# Altium schematic symbol library Simscale.SCHLIB: 124 symbols (part 1 of 2)
Pins are listed as number, name and electrical type; pins without a type are passive.

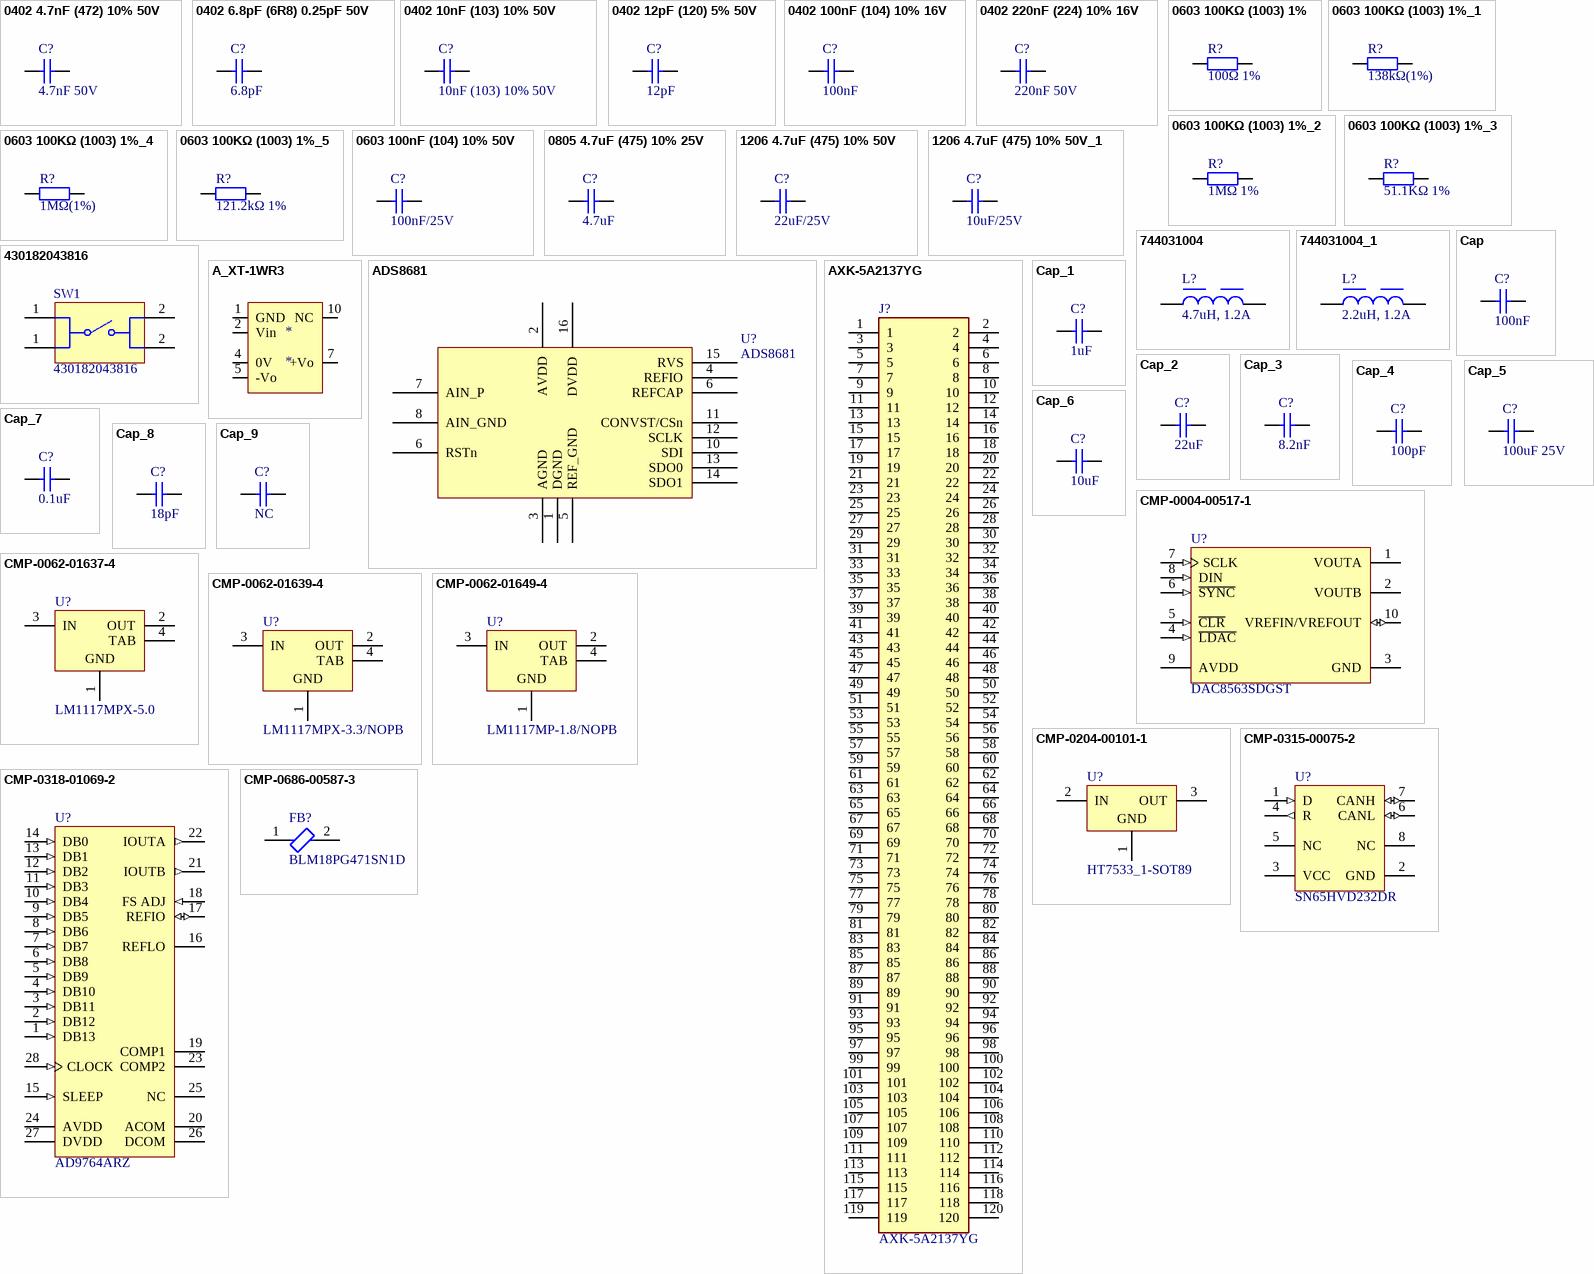
[diagram p0: symbols 0402 4.7nF (472) 10% 50V to CMP-0686-00587-3]

## 0402 4.7nF (472) 10% 50V
designator C?, comment 4.7nF 50V
贴片电容; ComponentLink1Description: 供应商链接; ComponentLink1URL: http://www.szlcsc.com/product/details_1890.html; Package: 0402; Supplier: LC; SuppliersPartNumber: C1538
footprint CAPC1608X06N (Chip Capacitor, 2-Leads, Body 1.60x0.80mm, IPC Medium Density)
pins: 1, 2

## 0402 6.8pF (6R8) 0.25pF 50V
designator C?, comment 6.8pF
贴片电容; ComponentLink1Description: 供应商链接; ComponentLink1URL: http://www.szlcsc.com/product/details_1928.html; Package: 0402; Supplier: LC; SuppliersPartNumber: C1576
footprint CAPC1608X06N (Chip Capacitor, 2-Leads, Body 1.60x0.80mm, IPC Medium Density)
pins: 1, 2

## 0402 10nF (103) 10% 50V
designator C?, comment 10nF (103) 10% 50V
贴片电容; ComponentLink1Description: 供应商链接; ComponentLink1URL: http://www.szlcsc.com/product/details_15869.html; Package: 0402; Supplier: LC; SuppliersPartNumber: C15195
footprint CAPC1608X06N (Chip Capacitor, 2-Leads, Body 1.60x0.80mm, IPC Medium Density)
pins: 1, 2

## 0402 12pF (120) 5% 50V
designator C?, comment 12pF
贴片电容; ComponentLink1Description: 供应商链接; ComponentLink1URL: http://www.szlcsc.com/product/details_1899.html; Package: 0402; Supplier: LC; SuppliersPartNumber: C1547
footprint CAPC1608X06N (Chip Capacitor, 2-Leads, Body 1.60x0.80mm, IPC Medium Density)
pins: 1, 2

## 0402 100nF (104) 10% 16V
designator C?, comment 100nF
贴片电容; ComponentLink1Description: 供应商链接; ComponentLink1URL: http://www.szlcsc.com/product/details_1877.html; Package: 0402; Supplier: LC; SuppliersPartNumber: C1525
footprint CAPC1608X06N (Chip Capacitor, 2-Leads, Body 1.60x0.80mm, IPC Medium Density)
pins: 1, 2

## 0402 220nF (224) 10% 16V
designator C?, comment 220nF 50V
贴片电容; ComponentLink1Description: 供应商链接; ComponentLink1URL: http://www.szlcsc.com/product/details_17456.html; Package: 0402; Supplier: LC; SuppliersPartNumber: C16772
footprint CAPC1608X06N (Chip Capacitor, 2-Leads, Body 1.60x0.80mm, IPC Medium Density)
pins: 1, 2

## 0603 100KΩ (1003) 1%
designator R?, comment 100Ω 1%
贴片电阻; ComponentLink1Description: 供应商链接; ComponentLink1URL: http://www.szlcsc.com/product/details_26546.html; Package: 0603; Supplier: LC; SuppliersPartNumber: C25803; Value: 100Ω 1%
footprint 0402_R
footprint RESC1608X05N (Chip Resistor, 2-Leads, Body 1.60x0.80mm, IPC Medium Density)
pins: 1, 2

## 0603 100KΩ (1003) 1%_1
designator R?, comment 138kΩ(1%)
贴片电阻; ComponentLink1Description: 供应商链接; ComponentLink1URL: http://www.szlcsc.com/product/details_26546.html; Package: 0603; Supplier: LC; SuppliersPartNumber: C25803; Value: 138kΩ(1%)
footprint CAPC1608X06N (Chip Capacitor, 2-Leads, Body 1.60x0.80mm, IPC Medium Density)
pins: 1, 2

## 0603 100KΩ (1003) 1%_2
designator R?, comment 1MΩ 1%
贴片电阻; ComponentLink1Description: 供应商链接; ComponentLink1URL: http://www.szlcsc.com/product/details_26546.html; Package: 0603; Supplier: LC; SuppliersPartNumber: C25803; Value: 1MΩ 1%
footprint CAPC1608X06N (Chip Capacitor, 2-Leads, Body 1.60x0.80mm, IPC Medium Density)
pins: 1, 2

## 0603 100KΩ (1003) 1%_3
designator R?, comment 51.1KΩ 1%
贴片电阻; ComponentLink1Description: 供应商链接; ComponentLink1URL: http://www.szlcsc.com/product/details_26546.html; Package: 0603; Supplier: LC; SuppliersPartNumber: C25803; Value: 51.1KΩ 1%
footprint CAPC1608X06N (Chip Capacitor, 2-Leads, Body 1.60x0.80mm, IPC Medium Density)
pins: 1, 2

## 0603 100KΩ (1003) 1%_4
designator R?, comment 1MΩ(1%)
贴片电阻; ComponentLink1Description: 供应商链接; ComponentLink1URL: http://www.szlcsc.com/product/details_26546.html; Package: 0603; Supplier: LC; SuppliersPartNumber: C25803; Value: 1MΩ(1%)
footprint RESC1608X05N (Chip Resistor, 2-Leads, Body 1.60x0.80mm, IPC Medium Density)
pins: 1, 2

## 0603 100KΩ (1003) 1%_5
designator R?, comment 121.2kΩ 1%
贴片电阻; ComponentLink1Description: 供应商链接; ComponentLink1URL: http://www.szlcsc.com/product/details_26546.html; Package: 0603; Supplier: LC; SuppliersPartNumber: C25803; Value: 121.2kΩ 1%
footprint CAPC1608X06N (Chip Capacitor, 2-Leads, Body 1.60x0.80mm, IPC Medium Density)
pins: 1, 2

## 0603 100nF (104) 10% 50V
designator C?, comment 100nF/25V
贴片电容; ComponentLink1Description: 供应商链接; ComponentLink1URL: http://www.szlcsc.com/product/details_15331.html; Package: 0603; Supplier: LC; SuppliersPartNumber: C14663
footprint CAPC1608X06N (Chip Capacitor, 2-Leads, Body 1.60x0.80mm, IPC Medium Density)
pins: 1, 2

## 0805 4.7uF (475) 10% 25V
designator C?, comment 4.7uF
贴片电容; ComponentLink1Description: 供应商链接; ComponentLink1URL: http://www.szlcsc.com/product/details_2131.html; Package: 0805; Supplier: LC; SuppliersPartNumber: C1779
footprint CAPC1608X06N (Chip Capacitor, 2-Leads, Body 1.60x0.80mm, IPC Medium Density)
pins: 1, 2

## 1206 4.7uF (475) 10% 50V
designator C?, comment 22uF/25V
贴片电容; ComponentLink1Description: 供应商链接; ComponentLink1URL: http://www.szlcsc.com/product/details_30577.html; Package: 1206; Supplier: LC; SuppliersPartNumber: C29823
footprint CAPC1608X06N (Chip Capacitor, 2-Leads, Body 1.60x0.80mm, IPC Medium Density)
pins: 1, 2

## 1206 4.7uF (475) 10% 50V_1
designator C?, comment 10uF/25V
贴片电容; ComponentLink1Description: 供应商链接; ComponentLink1URL: http://www.szlcsc.com/product/details_30577.html; Package: 1206; Supplier: LC; SuppliersPartNumber: C29823
footprint CAPC1608X06N (Chip Capacitor, 2-Leads, Body 1.60x0.80mm, IPC Medium Density)
pins: 1, 2

## 744031004
designator L?, comment 4.7uH, 1.2A
WE-TPC SMT Tiny Power Inductor, size 3816, 4.7uH, 1.2A, 105mOhm; Manufacturer: Wurth Elektronik; Manufacturer Part Number: 744031004; DC Resistance typ.: 90mOhm; Saturation Current: 0.9A; Self Resonant Frequency: 75MHz; ComponentLink1Description: Manufacturer Link; ComponentLink1URL: http://www.we-online.de; ComponentLink2Description: Datasheet; ComponentLink2URL: https://www.we-online.com/catalog/datasheet/744031004.pdf; DC Resistance max.: 105mOhm; Height: 1.65mm; Inductance: 4.7uH; Length: 3.8mm; Mounting Technology: SMT; Operating Temperature max.: 125C; Operating Temperature min.: -40C; Packaging: Tape and Reel; Rated Current: 1.2A; Size: 3816; Width: 3.8mm
footprint 电感 (Footprint not found)
pins: 1, 2

## 744031004_1
designator L?, comment 2.2uH, 1.2A
WE-TPC SMT Tiny Power Inductor, size 3816, 4.7uH, 1.2A, 105mOhm; Manufacturer: Wurth Elektronik; Manufacturer Part Number: 744031004; DC Resistance typ.: 90mOhm; Saturation Current: 0.9A; Self Resonant Frequency: 75MHz; ComponentLink1Description: Manufacturer Link; ComponentLink1URL: http://www.we-online.de; ComponentLink2Description: Datasheet; ComponentLink2URL: https://www.we-online.com/catalog/datasheet/744031004.pdf; DC Resistance max.: 105mOhm; Height: 1.65mm; Inductance: 4.7uH; Length: 3.8mm; Mounting Technology: SMT; Operating Temperature max.: 125C; Operating Temperature min.: -40C; Packaging: Tape and Reel; Rated Current: 1.2A; Size: 3816; Width: 3.8mm
footprint 电感 (Footprint not found)
pins: 1, 2

## 430182043816
designator SW1
NexarPartId: 22861789; Switch Function: Off-Mom; Contact Resistance: 100mΩ; Switch Travel: 250μm; Voltage Rating: 12V; Mechanical Life: 1Mcycles; Current Rating: 50mA; Actuator Material: Liquid Crystal Polymer, Polymer; Illumination Type: Illuminated, Non-Illuminated; Throw Configuration: SPST; Actuator Length: 900μm; Max Operating Temperature: 85°C; Mount: Surface Mount; Contact Material: Stainless Steel, Steel; Width: 6.2mm; Termination: Gull Wing; Min Operating Temperature: -40°C; Insulation Resistance: 100MΩ; Contact Plating: Silver; Length: 6.2mm; RoHS: Compliant; Contact Current Rating: 50mA; Packaging: Tape and Reel; REACH SVHC: No SVHC; Color: Black; Diameter: 3.5mm; Height: 4.3mm; Lead Free: Lead Free
footprint WS-TASV_L6W6H4.3_4301x20438x6 (Switch Tactile Spst-no 0.05A 12V)
footprint WS-TASV_L6W6H4.3_4301X20438X6 (SMD Tact Switch, body 6x6mm)
pins: 1 A1, 1 A2, 2 B2, 2 B1

## A_XT-1WR3
designator *
footprint A_XT-1WR3
pins: 1 GND, 2 Vin, 4 0V, 5 -Vo, 7 +Vo, 10 NC

## ADS8681
designator U?
ADC
footprint TSSOP16 (TSOP, 16-Leads, Body 5.00x4.40mm, Pitch 0.65mm, IPC Medium Density)
pins: 1 DGND, 2 AVDD, 3 AGND, 4 REFIO, 5 REF_GND, 6 REFCAP, 6 RSTn, 7 AIN_P, 8 AIN_GND, 10 SDI, 11 CONVST/CSn, 12 SCLK, 13 SDO0, 14 SDO1, 15 RVS, 16 DVDD

## AXK-5A2137YG
designator J?
Board to Board & Mezzanine Connectors CONN SOCKET BRD/BRD 120POS 0.5mm; Manufacturer_Name: Panasonic; Geometry.Height: 2.55mm; Manufacturer_Part_Number: AXK-5A2137YG; Mouser Part Number: *; Mouser Price/Stock: *; Arrow Part Number: *; Arrow Price/Stock: *; Datasheet Link: https://www3.panasonic.biz/ac/e_download/control/connector/base-base/catalog/con_eng_p5k.pdf
footprint AXK5A2137YG
pins: 1, 2, 3, 4, 5, 6, 7, 8, 9, 10, 11, 12, 13, 14, 15, 16, 17, 18, 19, 20, 21, 22, 23, 24, 25, 26, 27, 28, 29, 30, 31, 32, 33, 34, 35, 36, 37, 38, 39, 40, 41, 42, 43, 44, 45, 46, 47, 48, 49, 50, 51, 52, 53, 54, 55, 56, 57, 58, 59, 60, 61, 62, 63, 64, 65, 66, 67, 68, 69, 70, 71, 72, 73, 74, 75, 76, 77, 78, 79, 80, 81, 82, 83, 84, 85, 86, 87, 88, 89, 90, 91, 92, 93, 94, 95, 96, 97, 98, 99, 100, 101, 102, 103, 104, 105, 106, 107, 108, 109, 110, 111, 112, 113, 114, 115, 116, 117, 118, 119, 120

## Cap
designator C?, comment 100nF
Capacitor; Published: 8-Jun-2000; LatestRevisionDate: 17-Jul-2002; LatestRevisionNote: Re-released for DXP Platform.; PackageReference: RAD-0.3; Publisher: Altium Limited; PackageDescription: Radial Cap, Thru-Hole; 2 Leads; 0.3 in Pin Spacing; Value: 100nF
simulation model CAP (Capacitor)
signal-integrity model Cap
footprint CAPC1608X06N (Chip Capacitor, 2-Leads, Body 1.60x0.80mm, IPC Medium Density)
pins: 1, 2

## Cap_1
designator C?, comment 1uF
Capacitor; Published: 8-Jun-2000; LatestRevisionDate: 17-Jul-2002; LatestRevisionNote: Re-released for DXP Platform.; PackageReference: RAD-0.3; Publisher: Altium Limited; PackageDescription: Radial Cap, Thru-Hole; 2 Leads; 0.3 in Pin Spacing; Value: 1uF
simulation model CAP (Capacitor)
signal-integrity model Cap
footprint CAPC1608X06N (Chip Capacitor, 2-Leads, Body 1.60x0.80mm, IPC Medium Density)
pins: 1, 2

## Cap_2
designator C?, comment 22uF
Capacitor; Published: 8-Jun-2000; LatestRevisionDate: 17-Jul-2002; LatestRevisionNote: Re-released for DXP Platform.; PackageReference: RAD-0.3; Publisher: Altium Limited; PackageDescription: Radial Cap, Thru-Hole; 2 Leads; 0.3 in Pin Spacing; Value: 22uF
simulation model CAP (Capacitor)
signal-integrity model Cap
footprint CAPC1608X06N (Chip Capacitor, 2-Leads, Body 1.60x0.80mm, IPC Medium Density)
pins: 1, 2

## Cap_3
designator C?, comment 8.2nF
Capacitor; Published: 8-Jun-2000; LatestRevisionDate: 17-Jul-2002; LatestRevisionNote: Re-released for DXP Platform.; PackageReference: RAD-0.3; Publisher: Altium Limited; PackageDescription: Radial Cap, Thru-Hole; 2 Leads; 0.3 in Pin Spacing; Value: 8.2nF
simulation model CAP (Capacitor)
signal-integrity model Cap
footprint CAPC1608X06N (Chip Capacitor, 2-Leads, Body 1.60x0.80mm, IPC Medium Density)
pins: 1, 2

## Cap_4
designator C?, comment 100pF
Capacitor; Published: 8-Jun-2000; LatestRevisionDate: 17-Jul-2002; LatestRevisionNote: Re-released for DXP Platform.; PackageReference: RAD-0.3; Publisher: Altium Limited; PackageDescription: Radial Cap, Thru-Hole; 2 Leads; 0.3 in Pin Spacing; Value: 100pF
simulation model CAP (Capacitor)
signal-integrity model Cap
footprint CAPC1608X06N (Chip Capacitor, 2-Leads, Body 1.60x0.80mm, IPC Medium Density)
pins: 1, 2

## Cap_5
designator C?, comment 100uF 25V
Capacitor; Published: 8-Jun-2000; LatestRevisionDate: 17-Jul-2002; LatestRevisionNote: Re-released for DXP Platform.; PackageReference: RAD-0.3; Publisher: Altium Limited; PackageDescription: Radial Cap, Thru-Hole; 2 Leads; 0.3 in Pin Spacing; Value: 100uF 25V
simulation model CAP (Capacitor)
signal-integrity model Cap
footprint CAPC1608X06N (Chip Capacitor, 2-Leads, Body 1.60x0.80mm, IPC Medium Density)
pins: 1, 2

## Cap_6
designator C?, comment 10uF
Capacitor; Published: 8-Jun-2000; LatestRevisionDate: 17-Jul-2002; LatestRevisionNote: Re-released for DXP Platform.; PackageReference: RAD-0.3; Publisher: Altium Limited; PackageDescription: Radial Cap, Thru-Hole; 2 Leads; 0.3 in Pin Spacing; Value: 10uF
simulation model CAP (Capacitor)
signal-integrity model Cap
footprint CAPC1608X06N (Chip Capacitor, 2-Leads, Body 1.60x0.80mm, IPC Medium Density)
pins: 1, 2

## Cap_7
designator C?, comment 0.1uF
Capacitor; Published: 8-Jun-2000; LatestRevisionDate: 17-Jul-2002; LatestRevisionNote: Re-released for DXP Platform.; PackageReference: RAD-0.3; Publisher: Altium Limited; PackageDescription: Radial Cap, Thru-Hole; 2 Leads; 0.3 in Pin Spacing; Value: 0.1uF
simulation model CAP (Capacitor)
signal-integrity model Cap
footprint CAPC1608X06N (Chip Capacitor, 2-Leads, Body 1.60x0.80mm, IPC Medium Density)
pins: 1, 2

## Cap_8
designator C?, comment 18pF
Capacitor; Published: 8-Jun-2000; LatestRevisionDate: 17-Jul-2002; LatestRevisionNote: Re-released for DXP Platform.; PackageReference: RAD-0.3; Publisher: Altium Limited; PackageDescription: Radial Cap, Thru-Hole; 2 Leads; 0.3 in Pin Spacing; Value: 18pF
simulation model CAP (Capacitor)
signal-integrity model Cap
footprint CAPC1608X06N (Chip Capacitor, 2-Leads, Body 1.60x0.80mm, IPC Medium Density)
pins: 1, 2

## Cap_9
designator C?, comment NC
Capacitor; Published: 8-Jun-2000; LatestRevisionDate: 17-Jul-2002; LatestRevisionNote: Re-released for DXP Platform.; PackageReference: RAD-0.3; Publisher: Altium Limited; PackageDescription: Radial Cap, Thru-Hole; 2 Leads; 0.3 in Pin Spacing; Value: NC
simulation model CAP (Capacitor)
signal-integrity model Cap
footprint CAPC1608X06N (Chip Capacitor, 2-Leads, Body 1.60x0.80mm, IPC Medium Density)
pins: 1, 2

## CMP-0004-00517-1
designator U?, comment DAC8563SDGST
16-Bit, Dual, Low Power, Ultra-Low Glitch, Buffered Voltage Output DAC with 2.5 V, 4 ppm/degC Reference, -40 to 125 degC, 10-pin SOP (DGS10), Green (RoHS & no Sb/Br); Manufacturer: Texas Instruments; DNL(Max)(+/-LSB): 1; SubFamily: Precision DAC (=<10MSPS); Power Consumption(Typ)(mW): 0.9; Interface: Serial SPI; INL(Max)(+/-LSB): 12; DAC Channels: 2; Resolution(Bits): 16; Settling Time(us): 7; Eco-Plan: Green (RoHS & no Sb/Br); PackageReference: DGS10; DatasheetVersion: SLAS719D; Code_JEDEC: MO-153; ComponentLink3URL: http://www.ti.com/lit/ml/mpds035b/mpds035b.pdf; ComponentLink1Description: Manufacturer URL; ComponentLink2Description: Datasheet; ComponentLink2URL: http://www.ti.com/general/docs/lit/getliterature.tsp?genericPartNumber=DAC8563&fileType=pdf; ComponentLink1URL: http://www.ti.com/; Mounting Technology: Surface Mount; PartNumber: DAC8563SDGST; ComponentLink3Description: Package Specification; PackageVersion: 4073272/C, 02/2004; PackageDescription: 10-Pin Plastic Small Outline, Body 3 x 3 mm, Pitch 0.5 mm
pins: 1 VOUTA (hiz) "Analog output voltage from DAC-A", 2 VOUTB (hiz) "Analog output voltage from DAC-B", 3 GND (power) "Ground reference point for all circuitry on the device", 4 ~{LDAC} (in) "In synchronous mode, data are updated with the falling edge of the 24th SCLK cycle, which follows a falling edge of S\Y\N\C\. For such synchronous updates, the L\D\A\C\ pin is not required, and it must be connected to GND (See Datasheet)", 5 ~{CLR} (in) "Asynchronous clear input. The C\L\R\ input is falling-edge sensitive. When C\L\R\ is activated, zero scale (DACxx62) or mid-scale (DACxx63) is loaded to all input and DAC registers. This sets the DAC output voltages (See Datasheet)", 6 ~{SYNC} (in) "Level-triggered control input (active-low). This input is the frame synchronization signal for the input data. When S\Y\N\C\ goes low, it enables the input shift register, and data are sampled on subsequent falling clock (See Datasheet)", 7 SCLK (in) "Serial clock input. Data can be transferred at rates up to 50 MHz. Schmitt-trigger logic input", 8 DIN (in) "Serial data input. Data are clocked into the 24-bit input shift register on each falling edge of the serial clock input. Schmitt-trigger logic input", 9 AVDD (power) "Power-supply input, 2.7 V to 5.5 V", 10 VREFIN/VREFOUT (io) "Bidirectional voltage reference pin. If internal reference is used, 2.5-V output."

## CMP-0062-01637-4
designator U?, comment LM1117MPX-5.0
800mA Low-Dropout Linear Regulator, 4-pin SOT-223; Manufacturer: Texas Instruments; High-Reliability: Y; PowerWise: N; PackageTopMarking: XYTT*N06A; CompType: LDO IC; PackageDescription: Molded SOT-223, 6.50 x 3.56 x 1.6mm Body, 4 Lead, 2.3mm Pitch; PackageReference: DCY0004A; ComponentLink1URL: http://www.ti.com/general/docs/lit/getliterature.tsp?genericPartNumber=LM1117-N&fileType=pdf; Code_JEDEC: TO-261-AA; ComponentLink1Description: Datasheet URL; PartNumber: LM1117MPX-5.0; Code_IPC: SOT223-4; RoHS: N; PinCount: 4
footprint DCY0004A_L (SOT223, 4-Leads, Body 6.7x3.7mm, Pitch 2.3mm, IPC High Density)
footprint DCY0004A_M (SOT223, 4-Leads, Body 6.7x3.7mm, Pitch 2.3mm, IPC Low Density)
footprint DCY0004A_N (SOT223, 4-Leads, Body 6.7x3.7mm, Pitch 2.3mm, IPC Medium Density)
pins: 1 GND (power), 2 OUT (power), 3 IN (power), 4 TAB (power)

## CMP-0062-01639-4
designator U?, comment LM1117MPX-3.3/NOPB
800mA Low-Dropout Linear Regulator, 4-pin SOT-223, Pb-Free; Manufacturer: Texas Instruments; High-Reliability: Y; PowerWise: N; PackageTopMarking: XYTT*N05A; CompType: LDO IC; ComponentLink1URL: http://www.ti.com/general/docs/lit/getliterature.tsp?genericPartNumber=LM1117-N&fileType=pdf; PartNumber: LM1117MPX-3.3/NOPB; ComponentLink1Description: Datasheet URL; PinCount: 4; Code_JEDEC: TO-261-AA; PackageDescription: Molded SOT-223, 6.50 x 3.56 x 1.6mm Body, 4 Lead, 2.3mm Pitch; PackageReference: DCY0004A; RoHS: Y; Code_IPC: SOT223-4
footprint DCY0004A_L (SOT223, 4-Leads, Body 6.7x3.7mm, Pitch 2.3mm, IPC High Density)
footprint DCY0004A_M (SOT223, 4-Leads, Body 6.7x3.7mm, Pitch 2.3mm, IPC Low Density)
footprint DCY0004A_N (SOT223, 4-Leads, Body 6.7x3.7mm, Pitch 2.3mm, IPC Medium Density)
pins: 1 GND (power), 2 OUT (power), 3 IN (power), 4 TAB (power)

## CMP-0062-01649-4
designator U?, comment LM1117MP-1.8/NOPB
800mA Low-Dropout Linear Regulator, 4-pin SOT-223, Pb-Free; Manufacturer: Texas Instruments; PowerWise: N; PackageTopMarking: XYTT*N12A; High-Reliability: Y; CompType: LDO IC; Code_IPC: SOT223-4; PartNumber: LM1117MP-1.8/NOPB; RoHS: Y; ComponentLink1URL: http://www.ti.com/general/docs/lit/getliterature.tsp?genericPartNumber=LM1117-N&fileType=pdf; ComponentLink1Description: Datasheet URL; PinCount: 4; PackageReference: DCY0004A; PackageDescription: Molded SOT-223, 6.50 x 3.56 x 1.6mm Body, 4 Lead, 2.3mm Pitch; Code_JEDEC: TO-261-AA
footprint DCY0004A_N (SOT223, 4-Leads, Body 6.7x3.7mm, Pitch 2.3mm, IPC Medium Density)
footprint DCY0004A_L (SOT223, 4-Leads, Body 6.7x3.7mm, Pitch 2.3mm, IPC High Density)
footprint DCY0004A_M (SOT223, 4-Leads, Body 6.7x3.7mm, Pitch 2.3mm, IPC Low Density)
pins: 1 GND (power), 2 OUT (power), 3 IN (power), 4 TAB (power)

## CMP-0204-00101-1
designator U?, comment HT7533_1-SOT89
100mA Low Power LDO, Output Voltage 3.3V, SOT89 Pkg; DatasheetVersion: Rev1.80, Mar-2010; PackageDescription: 3-Pin SOT-89 Package 1.5 mm Pitch, 4.1 mm Lead Span; PackageReference: SOT89; PackageVersion: May-2010; Code_IPC: SOT89
footprint SOT89_M (SOT89, 3-Leads, Body 4.5x2.4 mm, Pitch 1.5mm, Lead Span 4.1mm, IPC Low Density)
footprint SOT89_N (SOT89, 3-Leads, Body 4.5x2.4 mm, Pitch 1.5mm, Lead Span 4.1mm, IPC Medium Density)
footprint SOT89_L (SOT89, 3-Leads, Body 4.5x2.4 mm, Pitch 1.5mm, Lead Span 4.1mm, IPC High Density)
pins: 1 GND (power), 2 IN (power), 3 OUT (power)

## CMP-0315-00075-2
designator U?, comment SN65HVD232DR
3.3 V Can Transceiver, 17 mA, -40 to 85 degC, 8-pin SOIC (D), Green (RoHS & no Sb/Br); Manufacturer: Texas Instruments; Supply Voltage(s)(V): 3.3; Receivers Per Package: 1; ICC(Max)(mA): 17; Rating: Catalog; Transient Pulse Protection(V): -25 to 25; Mounting Technology: Surface Mount; PartNumber: SN65HVD232DR; Code_JEDEC: MS-012AA; Eco-Plan: Green (RoHS & no Sb/Br); Isolated: No; SubFamily: CAN; Footprint: SN65HVD232; Drivers Per Package: 1; ComponentLink1URL: http://www.ti.com/general/docs/lit/getliterature.tsp?genericPartNumber=SN65HVD232&fileType=pdf; ComponentLink1Description: Datasheet; PackageDescription: 8-Pin Plastic Small Outline Integrated Circuit, 4.9 x 3.9 mm, Pitch 1.27 mm Pitch; PackageReference: D0008A; DatasheetVersion: SLOS346K; PackageVersion: revM, Jun-2011
footprint D0008A_M (SOIC, 8-Leads, Body 5x4mm, Pitch 1.27mm, IPC Low Density)
footprint D0008A_L (SOIC, 8-Leads, Body 5x4mm, Pitch 1.27mm, IPC High Density)
footprint D0008A_N (SOIC, 8-Leads, Body 5x4mm, Pitch 1.27mm, IPC Medium Density)
pins: 1 D (in) "Driver input", 2 GND (power) "Ground", 3 VCC (power) "Supply voltage", 4 R (out) "Receiver output", 5 NC "No connection", 6 CANL (io) "Low bus output", 7 CANH (io) "High bus outpu", 8 NC "No connection"

## CMP-0318-01069-2
designator U?, comment AD9764ARZ
Single 14-Bit TxDAC, 125 Msps, -40 to +85 degC, RW-28, Pb-Free, Tube; Manufacturer: Analog Devices; Generic Part Number: AD9764; Settling Time: 35ns; Resolution (Bits): 14; # DAC Outputs: 1; Max V+: 5.5V; Op Pwr Diss: 170mW; Single Supply: Yes; ComponentLink2URL: http://www.analog.com/static/imported-files/data_sheets/AD9764.pdf; Mounting Technology: Surface Mount; RevisionNote: Component URL fixed; DatasheetVersion: Rev.B; PackageVersion: 060706-A; ComponentLink1URL: http://www.analog.com/en/index.html; ComponentLink3Description: Product URL; Code_JEDEC: MS-013-AE; PartNumber: AD9764ARZ; ComponentLink3URL: http://www.analog.com/en/digital-to-analog-converters/da-converters/ad9764/products/product.html; PackageDescription: 28-Lead Standard Small Outline Package [SOIC_W]; PackageReference: RW-28; RoHS: Y; ComponentLink1Description: Manufacturer URL; ComponentLink2Description: Datasheet; Packing: Tube
footprint SOIC-28_L17.9-W7.5-P1.27-LS10.3-BL
pins: 1 DB13 (in) "Most Significant Data Bit 13 (MSB).", 2 DB12 (in) "Data Bit 12.", 3 DB11 (in) "Data Bit 11.", 4 DB10 (in) "Data Bit 10.", 5 DB9 (in) "Data Bit 9.", 6 DB8 (in) "Data Bit 8.", 7 DB7 (in) "Data Bit 7.", 8 DB6 (in) "Data Bit 6.", 9 DB5 (in) "Data Bit 5.", 10 DB4 (in) "Data Bit 4.", 11 DB3 (in) "Data Bit 3.", 12 DB2 (in) "Data Bit 2.", 13 DB1 (in) "Data Bit 1.", 14 DB0 (in) "Least Significant Data Bit 0 (LSB).", 15 SLEEP (in) "Power-Down Control Input. Active High. Contains active pull-down circuit, thus may be left unterminated if not used.", 16 REFLO "Reference Ground when Internal 1.2 V Reference Used. Connect to AVDD to disable internal reference.", 17 REFIO (io) "Reference Input/Output. Serves as reference input when internal reference disabled (i.e., Tie REFLO to AVDD). Serves as 1.2 V reference output when internal reference activated (i.e., Tie REFLO to ACOM). Requires 0.1 礔 (See Datasheet)", 18 FS ADJ (in) "Full-Scale Current Output Adjust.", 19 COMP1 "Bandwidth/Noise Reduction Node. Add 0.1 礔 to AVDD for optimum performance.", 20 ACOM (power) "Analog Common.", 21 IOUTB (out) "Complementary DAC Current Output. Full-scale current when all data bits are 0s.", 22 IOUTA (out) "DAC Current Output. Full-scale current when all data bits are 1s.", 23 COMP2 "Internal Bias Node for Switch Driver Circuitry. Decouple to ACOM with 0.1 礔 capacitor.", 24 AVDD (power) "Analog Supply Voltage (+2.7 V to +5.5 V).", 25 NC "No Internal Connection.", 26 DCOM (power) "Digital Common.", 27 DVDD (power) "Digital Supply Voltage (+2.7 V to +5.5 V).", 28 CLOCK (in) "Clock Input.  Data latched on positive edge of clock."

## CMP-0686-00587-3
designator FB?, comment BLM18PG471SN1D
Chip Ferrite Bead, 0603, 470Ω @ 100MHz, 0.2Ω, 25%, 1A; DC Resistance (DCR): 200mR; Number of Circuits: 1; Material: Steel; Impedance: 470R; Core Material: Ferrite; Width: 0.8mm; Termination: SMD/SMT; Series: BLM18P; Min Operating Temperature: -55°C; DC Resistance-Max: 200mR; Current Rating: 1A; Package Quantity: 1; Max Operating Temperature: 125°C; Military Standard: Not; REACH SVHC: No SVHC; Max Current Rating: 1A; Number of Pins: 2; RoHS Compliant: Yes; Tolerance: 25%; Packaging: Tape and Reel; Number of Lines: 1; Resistance: 200mR; Length: 1.6mm; Case Code (Metric): 1608; Depth: 0.8mm; Lead Free: Lead Free; Case/Package: 0603; Height: 0.8mm; Radiation Hardening: No; Test Frequency: 100MHz; Case Code (Imperial): 0603; Max DC Current: 1A; DC Current: 1A
footprint FP-BLM18-0_15-t0_8-MFG
footprint FP-BLM18-0_15-t0_8-IPC_C
footprint FP-BLM18-0_15-t0_8-IPC_A
footprint FP-BLM18-0_15-t0_8-IPC_B
pins: 1, 2

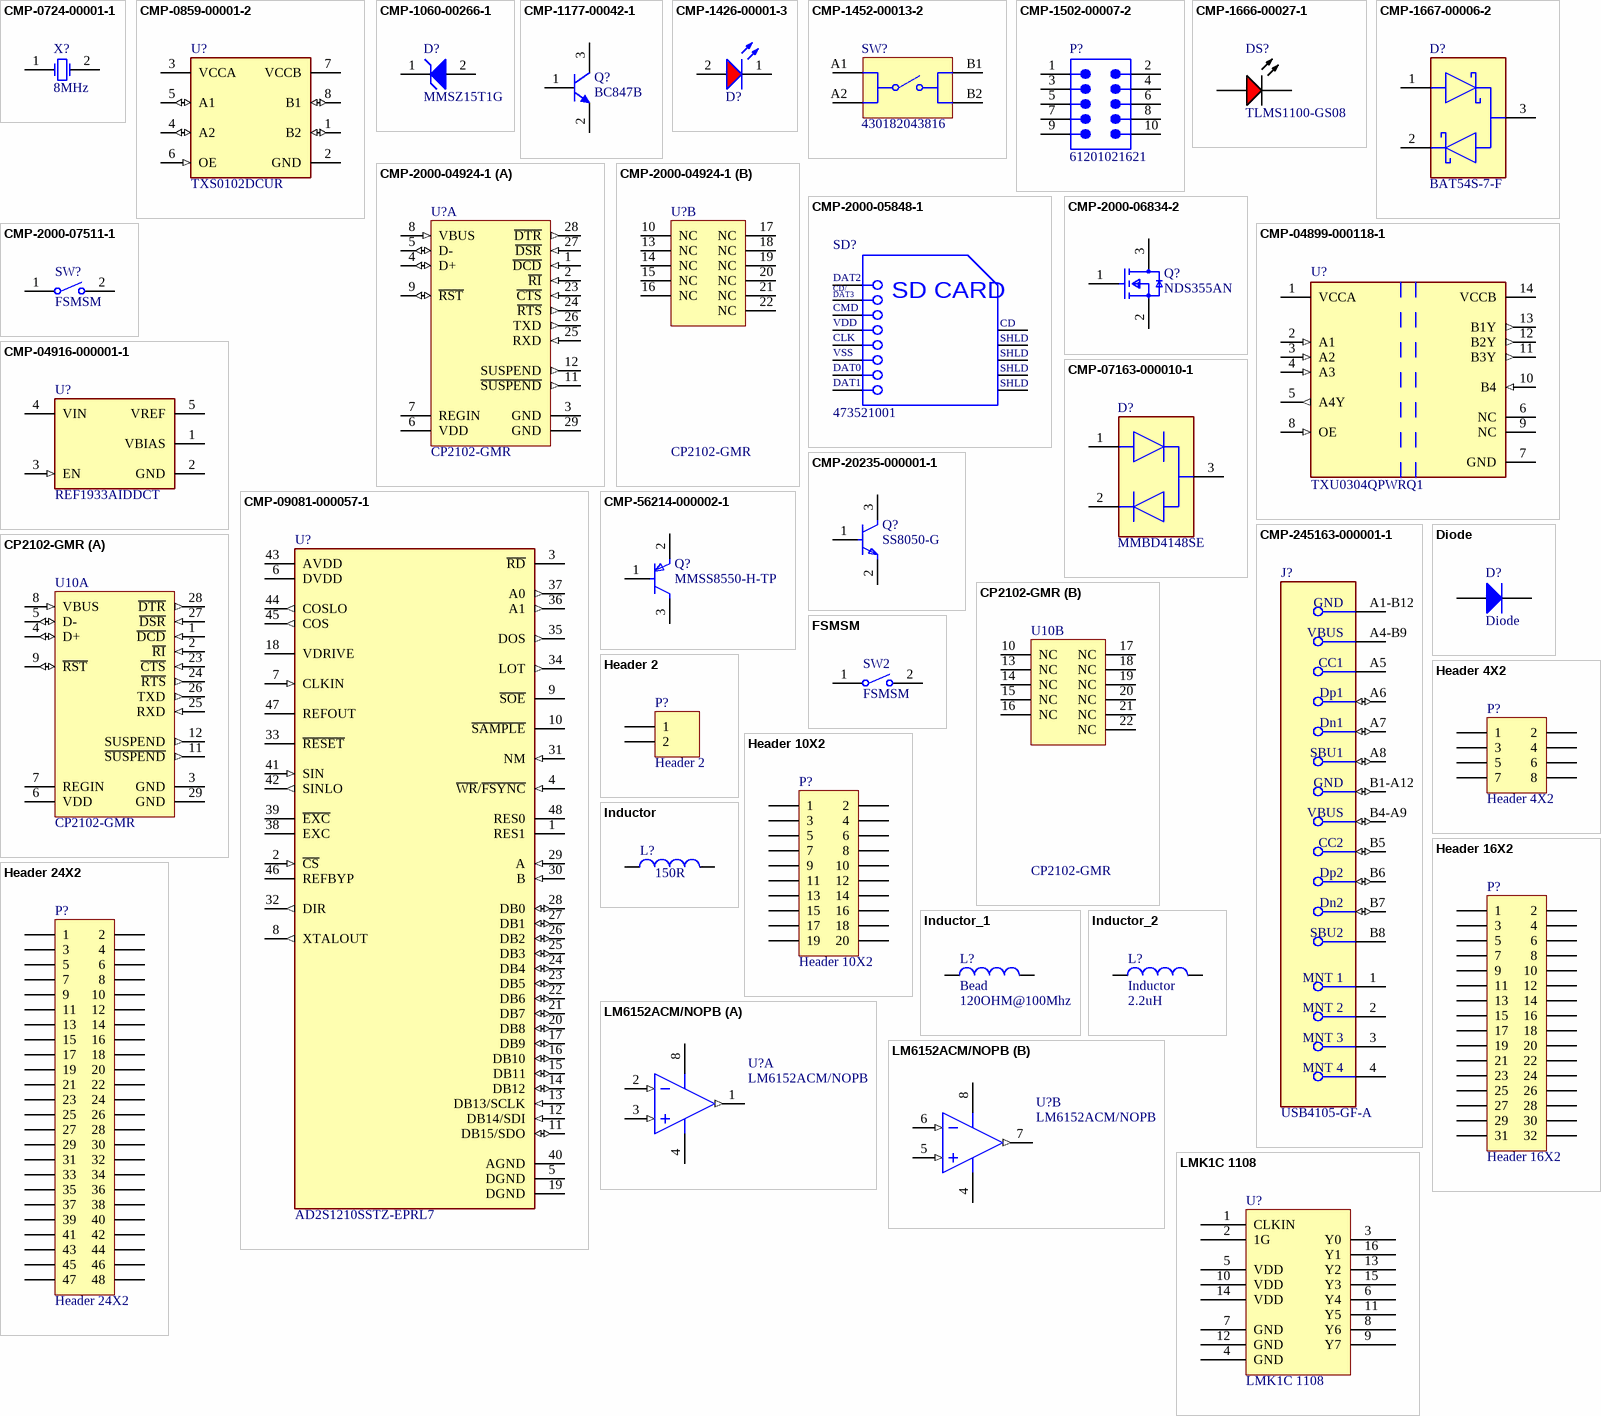
[diagram p1: symbols CMP-0724-00001-1 to LMK1C 1108]

## CMP-0724-00001-1
designator X?, comment 8MHz
PartNumber: 9C-3.6864MBBK-T; Manufacturer: TXC; Packing: Tape and Reel; Load Capacitance: 20 pF; Frequency Tolerance (at 25 degC): +/-50 ppm; Frequency: 3.6864 MHz; Frequency Stability (over Temp.): +/-50 ppm (-20 to 70 degC); PackageVersion: Jun-10; PackageDescription: 2-Pin SMD, Body 11.4 x 4.8 mm, Height 4.1 mm; PackageReference: 9C-2; ComponentLink2URL: http://www.txccrystal.com/images/pdf/9c.pdf; ComponentLink3URL: http://www.txccrystal.com/images/pdf/9c.pdf; Mounting Technology: Surface Mount; ComponentLink3Description: Package Specification; ComponentLink2Description: Datasheet; ComponentLink1URL: http://www.txccrystal.com/; RoHS: TRUE; DatasheetVersion: Jun-10; ComponentLink1Description: Manufacturer URL; Operating Temperature Range: -40 to 85 degC
footprint TXC-9C-2_V (SMD, 2-Leads, Body 11.4 x 4.8 mm, Height 4.1 mm)
pins: 1 X1, 2 X2

## CMP-0859-00001-2
designator U?, comment TXS0102DCUR
IC TRNSLTR BIDIRECTIONAL US8; Manufacturer: Texas Instruments; Number Of Circuits: 1; Number Of Inputs: 2; Data Rate: 24Mbits/s; Max Junction Temp: +150°C; V A Min: 1.65V; Standoff Height: 0mm; Logic Function Desc: Bidirectional Voltage-Level Translator; Max Supply Voltage: 5.5V; V A Max: 3.6V; Nominal Supply Current: 1-14.4uA; V B Min: 2.3V; Temperature: -40°C to +85°C; Temperature Range Low: -40°C; Height: 0.9mm; Device Class L1: Integrated Circuits (ICs); RoHS: TRUE; Min Supply Voltage: 1.65V; Digikey Description: IC TRNSLTR BIDIRECTIONAL US8; ComponentLink2Description: Datasheet; Octopart: https://octopart.com/txs0102dcur-texas+instruments-5414308; Temperature Range High: +85°C; Device Class L2: Logic ICs; Category: IC; Ambient Temperature Range High: +85°C; Automotive: No; Manufacturer Part Number: TXS0102DCUR; Device Class L3: Voltage Level Shifters; Number Of Outputs: 2; Ambient Temperature Range Low: -40°C; Lead Free: Yes; ComponentLink2URL: http://www.ti.com/lit/ds/symlink/txs0102.pdf; V B Max: 5.5V; Package: DCU0008A; Mouser Description: Translation - Voltage Levels 2-Bit Bi-Directional Voltage-Level-Trans
footprint FP-DCU0008A-MFG
footprint FP-DCU0008A-IPC_C
footprint FP-DCU0008A-IPC_B
footprint FP-DCU0008A-IPC_A
pins: 1 B2 (io), 2 GND (power), 3 VCCA (power), 4 A2 (io), 5 A1 (io), 6 OE (in), 7 VCCB (power), 8 B1 (io)

## CMP-1060-00266-1
designator D?, comment MMSZ15T1G
Zener Voltage Regulator, 500 mW, 2-Pin SOD-123, Pb-Free, Tape and Reel; Manufacturer: On Semiconductor; P Max (W): 0.5; RoHS: Pb-Free; Mounting Technology: Surface Mount; ComponentLink2URL: http://www.onsemi.com/pub_link/Collateral/MMSZ2V4T1-D.PDF; ComponentLink3Description: Package Specification; ComponentLink2Description: Datasheet; ComponentLink3URL: http://www.onsemi.com/pub_link/Collateral/425-04.PDF; PackageVersion: Rev. G, 10/2009; DatasheetVersion: Rev. 11; PackageDescription: 2-Pin SOD, Body 1.6 x 2.69 mm; PartNumber: MMSZ15T1G; Packing: Tape and Reel; ComponentLink1Description: Manufacturer URL; ComponentLink1URL: http://www.onsemi.com/; PackageReference: SOD-123-2-425-04
footprint ONSC-SOD-123-2-425-04_V (SOD, 2-Leads, Body 2.69x1.6mm)
pins: 1 K, 2 A

## CMP-1177-00042-1
designator Q?, comment BC847B
NPN Silicon AF Transistor, 45 V VCEO, 100 mA IC, SOT23, Reel, Green; Manufacturer: Infineon; VEBO (max): 6Â V; ICBO (max): 15Â nA; VCBO (max): 50Â V; IBM (max): 200Â mA; Green: TRUE; Ptot (max): 330Â mW; fT (typ): 250Â MHz; IC (max): 100Â mA; VCEO (max): 45Â V; PackageDescription: 3-Pin Small Outline Transistor Package, 1.3 x 2.9 mm Body, 0.95 mm Pitch; ComponentLink3URL: http://www.infineon.com/dgdl/SOT23-Package_Overview.pdf?folderId=db3a30431936bc4b0119532290053c66&fileId=db3a30431936bc4b0119533468123c85; PackageVersion: Apr-08; Packing: Reel; ComponentLink3Description: Package Specification; ComponentLink2URL: http://www.infineon.com/dgdl/bc847series_bc848series_bc849series_bc850series.pdf?folderId=db3a304314dca389011541d30fa21656&fileId=db3a304314dca389011541d4630a1657; ComponentLink1URL: http://www.infineon.com/; ComponentLink2Description: Datasheet; Polarity: NPN; Mounting Technology: Surface Mount; PackageReference: SOT23; ICM (max): 200Â mA; ComponentLink1Description: Manufacturer URL; PartNumber: BC847B
footprint INF-SOT23_M (SOT23, 3-Leads, Body 2.9x1.3 mm, Pitch 0.95 mm, IPC Low Density)
footprint INF-SOT23_N (SOT23, 3-Leads, Body 2.9x1.3 mm, Pitch 0.95 mm, IPC Medium Density)
footprint INF-SOT23_L (SOT23, 3-Leads, Body 2.9x1.3 mm, Pitch 0.95 mm, IPC High Density)
pins: 1 B, 2 E, 3 C

## CMP-1426-00001-3
designator D?, comment 150060RS75000  (value not drawn)
NexarPartId: 29717776; Color: Red; Power Dissipation: 72mW; Max Reverse Voltage (DC): 5V; Peak Wavelength: 630nm; Viewing Angle: 140°; Forward Voltage: 2V; Luminous Intensity: 250mcd; Forward Current: 100mA; Dominant Wavelength: 625nm; Lens Style: Clear, Rectangular; Max Junction Temperature (Tj): 95°C; Test Current: 20mA; Mount: Surface Mount; Packaging: Tape and Reel; Case Code (Metric): 1608; Max Operating Temperature: 85°C; Case Code (Imperial): 0603; REACH SVHC: Unknown; Width: 800µm; Length: 1.6mm; Reverse Voltage: 5V; Height: 700µm; Case/Package: 0603; RoHS: Compliant; Wavelength: 625nm; Min Operating Temperature: -40°C
footprint WL-SMCW_0603_150060xx75000 (WL-SMCW SMT Mono-Color Chip LED Waterclear)
pins: 1 K, 2 A

## CMP-1452-00013-2
designator SW?, comment 430182043816
NexarPartId: 22861789; Switch Function: Off-Mom; Contact Resistance: 100mΩ; Switch Travel: 250µm; Voltage Rating: 12V; Mechanical Life: 1Mcycles; Current Rating: 50mA; Actuator Material: Liquid Crystal Polymer, Polymer; Illumination Type: Illuminated, Non-Illuminated; Throw Configuration: SPST; Actuator Length: 900µm; Max Operating Temperature: 85°C; Mount: Surface Mount; Contact Material: Stainless Steel, Steel; Width: 6.2mm; Termination: Gull Wing; Min Operating Temperature: -40°C; Insulation Resistance: 100MΩ; Contact Plating: Silver; Length: 6.2mm; RoHS: Compliant; Contact Current Rating: 50mA; Packaging: Tape and Reel; REACH SVHC: No SVHC; Color: Black; Diameter: 3.5mm; Height: 4.3mm; Lead Free: Lead Free
footprint WS-TASV_L6W6H4.3_4301x20438x6 (Switch Tactile Spst-no 0.05A 12V)
pins: A1, A2, B1, B2

## CMP-1502-00007-2
designator P?, comment 61201021621
NexarPartId: 8917783; Number of Contacts: 10; Voltage Rating (DC): 250V; Insulation Resistance: 1GΩ; Current Rating: 3A; Row Spacing: 2.54mm; Contact Resistance: 20mΩ; Connector Type: Male Pin; Gender: Male; Flammability Rating: UL94 V-0; Termination: Solder; Width: 20.36mm; Length: 20.36mm; Housing Material: PBT; Operating Supply Voltage: 250V; Min Operating Temperature: -40°C; Lead Free: Lead Free; Insulation Material: PBT; Orientation: Vertical; RoHS: Compliant; Voltage Rating: 250V; Number of Pins: 10; Height: 8.85mm; REACH SVHC: Unknown; Contact Material: Copper; Contact Gender: Male; Color: Black; Mount: Through Hole; Contact Plating: Gold; Lead Pitch: 2.54mm; Number of Positions: 10; Pitch: 2.54mm; Max Operating Temperature: 105°C; Number of Rows: 2
footprint 61201021621 (WR-BHD Straight Male, Box Header, Through Hole, 2 Rows, 10 Contacts, 2.54mm Pitch)
pins: 1, 2, 3, 4, 5, 6, 7, 8, 9, 10

## CMP-1666-00027-1
designator DS?, comment TLMS1100-GS08
LED, RED, 2.1 V, -40 to 100 degC, 2-Pin SMD (0603), RoHS, Tape and Reel; Type (Capacitors): C0G; Resistance: 100000000000 Ohm; Capacitance: 12 pF; Voltage Rating: 50 V; Tolerance: 5%; Min Operating Temperature: -55degC; REACH SVHC: No SVHC; ComponentLink2Description: Datasheet; ComponentLink1URL: http://www.vishay.com/; Width: 0.8 mm; Package Quantity: 4000; PackageReference: TLMX1100; ComponentLink2URL: http://www.vishay.com/docs/83173/tlmb1100.pdf; Case/Package: 0603; Case Code (Metric): 1608; Packaging: Tape and Reel; Pins: 2; ComponentLink1Description: Manufacturer URL; Max Operating Temperature: 125degC; Height: 0.8 mm; Length: 1.6 mm; Mount: Surface Mount; PackageDescription: 2-Pin Surface Mount Device, Body 1.6 x 0.8 mm; DatasheetVersion: Rev. 2.7, 03/2016; Case Code (Imperial): 0603; Voltage Rating (DC): 50 V; RoHSCompliant: True; Radiation Hardening: No
footprint VISH-TLMX1100_V (SMD, 2-Leads, Body 1.6x0.8mm)
pins: 1 A, 2 K

## CMP-1667-00006-2
designator D?, comment BAT54S-7-F
DIODE ARRAY SCHOTTKY 30V SOT23-3; Forward Voltage: 800mV; Reverse Recovery Time: 5ns; Peak Non-Repetitive Surge Current: 600mA; Power Rating: 200mW; Current Rating: 200mA; Peak Reverse Current: 2uA; Capacitance: 10pF; Width: 1.3mm; Mount: Surface Mount; Height: 1mm; Number of Pins: 3; Weight: 0.000282oz; Max Reverse Voltage (DC): 30V; Max Power Dissipation: 200mW; Lead Free: Lead Free; Max Operating Temperature: 150°C; Min Operating Temperature: -65°C; Package Quantity: 3000; REACH SVHC: No SVHC; Termination: SMD/SMT; Max Forward Surge Current (Ifsm): 600mA; Radiation Hardening: No; Voltage Rating (DC): 30V; Average Rectified Current: 200mA; Max Repetitive Reverse Voltage (Vrrm): 30V; Contact Plating: Tin; Case/Package: SOT-23; Forward Current: 200mA; Power Dissipation: 200mW; Length: 2.9mm; Packaging: Tape and Reel
footprint FP-SOT23-MFG
footprint FP-SOT23-IPC_B
footprint FP-SOT23-IPC_A
footprint FP-SOT23-IPC_C
pins: 1, 2, 3

## CMP-2000-04924-1
designator U?, comment CP2102-GMR
Single-Chip USB to URAT Bridge, 3.3 V, -40 to 85 degC, 28-Pin QFN, RoHS, Tape and Reel; Manufacturer: Silicon Labs; Interface Circuit Standard 1: RS-232; Transmitter and Receiver FIFO Counter: No; Supply Current: 26mA; Operating Supply Voltage (Min): 3V; Operating Supply Voltage (Typ): 3.3V; Data Rate: 1000kbps; Operating Supply Voltage (Max): 3.6V; Number of Channels: 1; Package URL: http://www.silabs.com/Support%20Documents/TechnicalDocs/C8051T61x.pdf; Operating Temperature (Max): 85C; Datasheet URL: http://www.mouser.com/ds/2/368/CP2102-9-247052.pdf; Operating Temperature Classification: Industrial; Operating Temperature (Min): -40C; Package Description: 28-Pin Quad-Flat No-Leads Package, Body 5 x 5 mm, Pitch 0.5 mm; Manufacturer URL: http://www.silabs.com/; Rad Hardened: No; Package Reference: QFN-28; Pin Count: 28; Packaging: TapeandReel; Mounting: SurfaceMount; Package Type: QFNEP; Datasheet Version: Rev. 1.6, 12/2013
footprint SLAB-QFN-28-3125x3125TP_M (QFN, 28-Leads, Body 5x5mm, Pitch 0.5mm, Thermal Pad 3.13x3.13mm, IPC Low Density)
footprint SLAB-QFN-28-3125x3125TP_N (QFN, 28-Leads, Body 5x5mm, Pitch 0.5mm, Thermal Pad 3.13x3.13mm, IPC Medium Density)
footprint SLAB-QFN-28-3125x3125TP_L (QFN, 28-Leads, Body 5x5mm, Pitch 0.5mm, Thermal Pad 3.13x3.13mm, IPC High Density)
part A pins: 1 ~{DCD} (in) "Data Carrier Detect control input (active low)", 2 ~{RI} (in) "Ring Indicator control input (active low)", 3 GND (power) "Ground", 4 D+ (io) "USB D+", 5 D- (io) "USB D-", 6 VDD (power) "3.0-3.6 V Power Supply Voltage Input. 3.3 V Voltage Regulator Output", 7 REGIN (power) "5 V Regulator Input. This pin is the input to the on-chip voltage regulator.", 8 VBUS (in) "VBUS Sense Input. This pin should be connected to the VBUS signal of a USB network. A 5 V signal on this pin indicates a USB network connection.", 9 ~{RST} (io) "Device Reset. Open-drain output of internal POR or VDD monitor. An external source can initiate a system reset by driving this pin low for at least 15 us.", 11 ~{SUSPEND} (out), 12 SUSPEND (out), 23 ~{CTS} (in) "Clear To Send control input (active low)", 24 ~{RTS} (out) "Ready to Send control output (active low)", 25 RXD (in) "Asynchronous data input (UART Receive)", 26 TXD (out) "Asynchronous data output (UART Transmit)", 27 ~{DSR} (in) "Data Set Ready control input (active low)", 28 ~{DTR} (out) "Data Terminal Ready control output (active low)", 29 GND (power) "Ground"
part B pins: 10 NC "These pins should be left unconnected or tied to VDD.", 13 NC "These pins should be left unconnected or tied to VDD.", 14 NC "These pins should be left unconnected or tied to VDD.", 15 NC "These pins should be left unconnected or tied to VDD.", 16 NC "These pins should be left unconnected or tied to VDD.", 17 NC "These pins should be left unconnected or tied to VDD.", 18 NC "These pins should be left unconnected or tied to VDD.", 19 NC "These pins should be left unconnected or tied to VDD.", 20 NC "These pins should be left unconnected or tied to VDD.", 21 NC "These pins should be left unconnected or tied to VDD.", 22 NC "These pins should be left unconnected or tied to VDD."

## CMP-2000-05848-1
designator SD?, comment 473521001
MicroSD(TM), Pitch 1.1 mm, 8 Position, Height 1.88 mm, -20 to 85 degC, RoHS, Tape and Reel; Manufacturer: Molex; Datasheet Version: Rev. G, 01/2012; Datasheet URL: http://www.molex.com/pdm_docs/sd/473521001_sd.pdf; Package Reference: 473521001; Manufacturer URL: http://www.molex.com/; Mounting Technology: SurfaceMount; Package Description: MicroSD(TM), Pitch 1.1 mm, 8 Position, Height 1.88 mm
footprint MOLX-473521001_V (SMD, 8-Leads, Body 15.2x14mm, Pitch 1.1mm)
pins: 1 DAT2, 2 CD/DAT3, 3 CMD, 4 VDD, 5 CLK, 6 VSS, 7 DAT0, 8 DAT1, 9 CD, 10 SHLD, 11 SHLD, 12 SHLD, 13 SHLD
text: CD/; DAT3; SD CARD

## CMP-2000-06834-2
designator Q?, comment NDS355AN
MOSFET N-CH 30V 1.7A SSOT3; Manufacturer: ON Semiconductor; Gate To Source Voltage: 20V; Threshold Vgs Min: 1V; Pulse Drain Current: 10A; Number Of N Channels: 1; Typ Forward Diode Voltage: 0.8V; Input Capacitace At Vds: 195pF @ 15V; Turn Off Delay Time: 13ns; Gate Charge At Vgs: 3.5nC @ 5V; Rthja Max: 250°C/W; Standoff Height: 0.013mm; Max Forward Diode Voltage: 1.2V; Power Dissipation: 0.46W; Depletion Mode: False; Threshold Vgs Max: 2V; Drain To Source Resistance: 0.105Ω; Turn On Delay Time: 10ns; Max Junction Temp: +150°C; Transconductance: 3.5S; Automotive: No; Drain To Source Voltage: 30V; Temperature: -55°C to +150°C; Device Class L1: Discrete Semiconductors; Number Of Channels: 1; Octopart: https://octopart.com/nds355an-on+semiconductor-84330922; Temperature Range High: +150°C; Category: Trans; Manufacturer Part Number: NDS355AN; Device Class L2: Transistors; RoHS: TRUE; Digikey Description: MOSFET N-CH 30V 1.7A SSOT3; Drain To Source Breakdown Voltage: 30V; Height: 1.22mm; Mouser Description: MOSFET SOT-23 N-CH LOGIC; Temperature Range Low: -55°C; ComponentLink2URL: https://www.onsemi.com/pub/Collateral/NDS355AN-D.PDF; ComponentLink2Description: Datasheet; Continuous Drain Current: 1.7A; Package: 527AG-01; Device Class L3: MOSFETs; Lead Free: Yes; Footprint Url: https://www.onsemi.com/pub/Collateral/527AG.PDF
footprint FP-527AG-01-IPC_C
footprint FP-527AG-01-IPC_B
footprint FP-527AG-01-IPC_A
pins: 1 G, 2 S, 3 D

## CMP-2000-07511-1
designator SW?, comment FSMSM
FSMSM Push Button Switch, 50 mA, -35 to 85 degC, 2-Pin SMD, RoHS, Bulk; Manufacturer: TE Connectivity; Actuator Length: 1.07mm; Electrical Life: 20000Cycles; Actuator Material: Polyamide; Current Rating: 50mA; Illumination Type: Illuminated; Voltage Rating (DC): 24V; Contact Resistance: 100mOhm; Case\/Package: SMD/SMT; Operating Force: 180gf; Switch Travel: 0.25mm; Max Voltage Rating (DC): 12V; Throw Configuration: SPST; Packaging: LoosePiece; Max Operating Temperature: 85degC; ELV: Compliant; Package Description: 2-Pin Surface Mount Device, Body 6 x 3.5 mm, Pitch 9.19 mm; RoHSCompliant: true; Manufacturer URL: http://www.te.com/; Contact Plating: Silver; Contact Material: Brass; Mounting Technology: SurfaceMount; Contact Current Rating: 50mA; Datasheet Version: Rev. C2, 08/2014; Datasheet URL: http://www.te.com/commerce/DocumentDelivery/DDEController?Action=showdoc&DocId=Customer+Drawing%7F1437566-3%7FC2%7Fpdf%7FEnglish%7FENG_CD_1437566-3_C2_1437566_3_1_c.dwg.pdf%7F1437566-3; Mechanical Life: 20000Cycles; Package Reference: FSMSM; REACH SVHC: Unknown; Orientation: Straight; Min Operating Temperature: -35degC; Lead Free: LeadFree; Termination: GullWing; Package Quantity: 1000; Mount: SurfaceMount
footprint TECO-FSMSM-2_V (SMD, 2-Leads, Body 6x3.5mm, Pitch 9.19mm)
pins: 1, 2

## CMP-04899-000118-1
designator U?, comment TXU0304QPWRQ1
Translation - Voltage Levels Automotive four chan nel unidirectional
footprint FP-PW0014A-IPC_B
footprint FP-PW0014A-MFG
footprint FP-PW0014A-IPC_C
footprint FP-PW0014A-IPC_A
pins: 1 VCCA (power), 2 A1 (in), 3 A2 (in), 4 A3 (in), 5 A4Y (out), 6 NC, 7 GND (power), 8 OE (in), 9 NC, 10 B4 (in), 11 B3Y (out), 12 B2Y (out), 13 B1Y (out), 14 VCCB (power)

## CMP-04916-000001-1
designator U?, comment REF1933AIDDCT
IC VREF SERIES 3.3V SOT5; Manufacturer: Texas Instruments; Max Supply Voltage: 5.5V; Min Supply Voltage: 3.32V; Number Of Outputs: 2; Max Junction Temp: +150°C; Nominal Supply Current: 360uA; Output Current: 20mA; Output Type: Fixed; Standoff Height: 0mm; ComponentLink2Description: Datasheet; Mouser Description: Voltage References Dual Output Vref & Vref/2 Voltage Ref; RoHS: TRUE; Manufacturer Part Number: REF1933AIDDCT; Temperature Range High: +125°C; Temperature Range Low: -40°C; Height: 1.1mm; ComponentLink2URL: http://www.ti.com/lit/ds/symlink/ref1930.pdf; Category: IC; Device Class L2: Power Management ICs; Ipc Land Pattern Name: SOT95P280X110-5; Temperature: -40°C to +125°C; Device Class L1: Integrated Circuits (ICs); Reference Type: Series; Device Class L3: Voltage References; Package: DDC0005A; Digikey Description: IC VREF SERIES 3.3V SOT5; Octopart: https://octopart.com/ref1933aiddct-texas+instruments-50417958; Lead Free: Yes; Automotive: No; Footprint Url: http://www.ti.com/lit/ds/symlink/tlv700.pdf; Output Voltage: 3.3V
footprint FP-DDC0005A-MFG
footprint FP-DDC0005A-IPC_C
footprint FP-DDC0005A-IPC_B
footprint FP-DDC0005A-IPC_A
pins: 1 VBIAS (power), 2 GND (power), 3 EN (in), 4 VIN (power), 5 VREF (power)

## CMP-07163-000010-1
designator D?, comment MMBD4148SE
DIODE ARRAY GP 100V 200MA SOT23; Manufacturer: ON Semiconductor; Standoff Height: 0.01mm; Peak Reverse Current: 5uA; Value: 4pF; Max Surge Forward Current: 1A; Max Junction Temp: +150°C; Device Class L3: Rectifier Diodes; Digikey Description: DIODE ARRAY GP 100V 200MA SOT23; RoHS: TRUE; Lead Free: Yes; Octopart: https://octopart.com/mmbd4148se-on+semiconductor-12154952; ComponentLink2Description: Datasheet; Temperature: to +150°C; Automotive: No; Reverse Voltage: 100V; Temperature Range High: +150°C; ComponentLink2URL: https://www.onsemi.com/pub/Collateral/MMBD4148SE-D.pdf; Category: Diode; Max Repetitive Reverse Voltage: 100V; Forward Current: 200mA; Device Class L2: Diodes; Mouser Description: MMBD Series 350 mW 100 V 200 mA Surface Mount Small Signal Diode - SOT-23-3; Height: 1.11mm; Footprint Url: https://www.onsemi.com/pub/Collateral/318-08.PDF; Capacitance: 4pF; Manufacturer Part Number: MMBD4148SE; Device Class L1: Discrete Semiconductors; Package: 318-08
footprint FP-318-08-MFG
footprint FP-318-08-IPC_C
footprint FP-318-08-IPC_B
footprint FP-318-08-IPC_A
pins: 1, 2, 3

## CMP-09081-000057-1
designator U?, comment AD2S1210SSTZ-EPRL7
IC R/D CONV 10/12/14/16B 48LQFP; Power Dissipation: 50mW; Number of Channels: 2; Resolution: 16b; Supply Type: Analog; Interface: Serial; Packaging: Tape and Reel; Mount: Surface Mount; RoHS Compliant: Yes; Case/Package: LQFP; Max Operating Temperature: 125°C; Min Operating Temperature: -40°C; Number of Pins: 48
footprint FP-ST-48-IPC_B
footprint FP-ST-48-IPC_A
footprint FP-ST-48-IPC_C
pins: 1 RES1, 2 ~{CS} (in), 3 ~{RD}, 4 ~{WR}/~{FSYNC} (in), 5 DGND (power), 6 DVDD (power), 7 CLKIN (in), 8 XTALOUT (out), 9 ~{SOE}, 10 ~{SAMPLE}, 11 DB15/SDO (io), 12 DB14/SDI (in), 13 DB13/SCLK (in), 14 DB12 (io), 15 DB11 (io), 16 DB10 (io), 17 DB9 (io), 18 VDRIVE (power), 19 DGND (power), 20 DB8 (io), 21 DB7 (io), 22 DB6 (io), 23 DB5 (io), 24 DB4 (io), 25 DB3 (io), 26 DB2 (io), 27 DB1 (io), 28 DB0 (io), 29 A (in), 30 B (in), 31 NM (in), 32 DIR (out), 33 ~{RESET}, 34 LOT (out), 35 DOS (out), 36 A1 (out), 37 A0 (out), 38 EXC, 39 ~{EXC}, 40 AGND (power), 41 SIN (in), 42 SINLO (out), 43 AVDD (power), 44 COSLO (out), 45 COS (out), 46 REFBYP, 47 REFOUT, 48 RES0

## CMP-20235-000001-1
designator Q?, comment SS8050-G
NPN TRANSISTOR 1.5A 40V SOT-23 R; Transition Frequency: 100MHz; Max Breakdown Voltage: 25V; Collector Emitter Voltage (VCEO): 400mV; Max Power Dissipation: 300mW; Max Collector Current: 1.5A; Case/Package: TO-236-3; Packaging: Tape and Reel; RoHS Compliant: Yes; Mount: Surface Mount; Collector Emitter Breakdown Voltage: 25V
footprint FP-SS8050-G-MFG
footprint FP-SS8050-G-IPC_C
footprint FP-SS8050-G-IPC_B
footprint FP-SS8050-G-IPC_A
pins: 1 B, 2 E, 3 C

## CMP-56214-000002-1
designator Q?, comment MMSS8550-H-TP
TRANS PNP 25V 1.5A SOT23; Emitter Base Voltage (VEBO): 1.6V; Collector Base Voltage (VCBO): 40V; Collector Emitter Saturation Voltage: 500mV; Max Power Dissipation: 625mW; Transition Frequency: 100MHz; Element Configuration: Single; hFE Min: 40; Polarity: PNP; Lead Free: Lead Free; Max Breakdown Voltage: 25V; Package Quantity: 1; Min Operating Temperature: -55°C; Case/Package: SOT-23; Max Collector Current: 1.5A; Mount: Surface Mount; Packaging: Tape and Reel; Collector Emitter Voltage (VCEO): 500mV; Max Operating Temperature: 150°C; Gain Bandwidth Product: 100MHz; Collector Emitter Breakdown Voltage: 25V
footprint FP-SOT-23-IPC_B
footprint FP-SOT-23-IPC_C
footprint FP-SOT-23-MFG
footprint FP-SOT-23-IPC_A
pins: 1 B, 2 E, 3 C

## CMP-245163-000001-1
designator J?, comment USB4105-GF-A
CONN RCPT USB2.0 TYPEC 5A; Manufacturer: GCT; Voltage Rating: 20V; Is Female: yes; Current Rating: 5/6.25/1.25/0.25A; Number Of Contacts: 16; Conn Orientation: Right Angle; Device Class L1: Connectors; Category: Conn; Lead Free: Yes; RoHS: TRUE; Temperature Range High: +85°C; Digikey Description: CONN RCPT USB2.0 TYPEC 5A; Device Class L3: unset; ComponentLink2Description: Datasheet; Manufacturer Part Number: USB4105-GF-A; Package: 0; Usb Standard: USB 2.0; Device Class L2: USB Connectors; Automotive: No; Temperature Range Low: -40°C; Height: 3.46mm; Temperature: -40°C to +85°C; Contact Material: Gold,Nickel; ComponentLink2URL: https://gct.co/files/drawings/usb4105.pdf; Octopart: https://octopart.com/usb4105-gf-a-gct-106627878
footprint FP-USB4105-GF-A-MFG
pins: 1 MNT 1 (power), 2 MNT 2 (power), 3 MNT 3 (power), 4 MNT 4 (power), A1-B12 GND (power), A4-B9 VBUS (power), A5 CC1 (power), A6 Dp1 (io), A7 Dn1 (io), A8 SBU1 (io), B1-A12 GND (io), B4-A9 VBUS (io), B5 CC2 (io), B6 Dp2 (io), B7 Dn2 (io), B8 SBU2 (power)